# Altium footprint library Kanaloa_V2.0.0_Power.PcbLib: 36 footprints (part 2 of 3)
Each footprint in its own frame and in the unit in brackets; x right, y up, seen from the top. Pads: shape width x height; smd on the part's side, far side on the other; paste and mask are expansions set on the pad; w line width, h text height; cw(c..) or ccw(c..) is an arc to the next point about the centre after c.
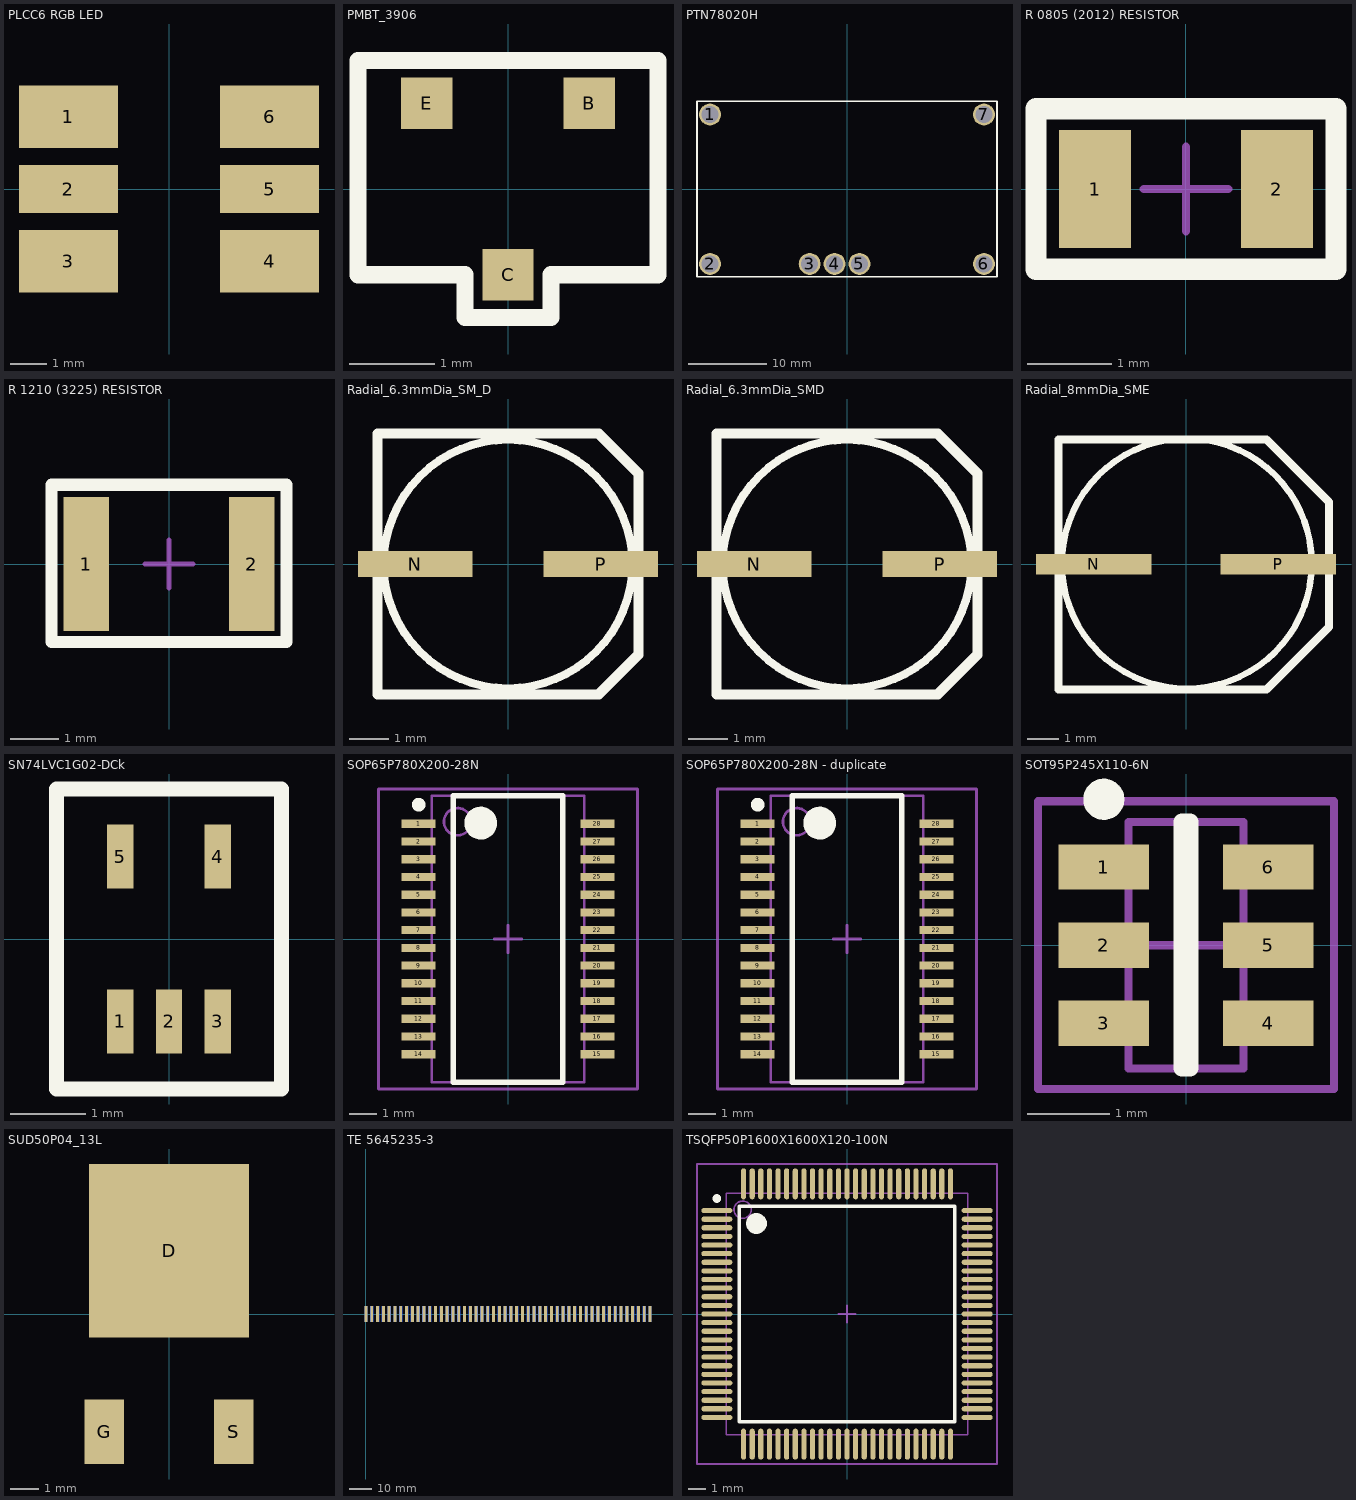
[diagram p1: the footprints below, top view; thin cyan lines are the x and y axes]

## MIC2171 [mm]

## PLCC6 RGB LED [mm] "Cree, CLV6A-FKB package"
pads (6):
  rect 2.7x1.7 smd: 1(-2.75,1.975) 3(-2.75,-1.975) 4(2.75,-1.975) 6(2.75,1.975)
  rect 2.7x1.3 smd: 2(-2.75,0) 5(2.75,0)
3D body: height 2.6, standoff 0, extent -2.75,-2.75 2.75,2.75

## PMBT_3906 [mm] "PNP Switching Transistor"
pads (3):
  rect 0.6x0.6 smd: B(0.95,1) C(0,-1) E(-0.95,1)
Top Overlay:
  lines w0.2: -1.75,-1 -0.5,-1 -0.5,-1.5 0.5,-1.5 0.5,-1 1.75,-1 1.75,1.5 -1.75,1.5 -1.75,-1
3D body: height 0.98, standoff -0.01, extent -1.448,-1.21 1.448,1.21

## PTN78020H [mil] "POWERWERWERWERWER"
pads (7):
  round 110 hole 85: 1(-687.5,375) 2(-687.5,-375) 3(-187.5,-375) 4(-62.5,-375) 5(62.5,-375) 6(687.5,-375) 7(687.5,375)
Top Overlay:
  lines w7.87: -753,-439 753,-439 753,441 -753,441 -753,-439
3D body: height 165.37, standoff -291.34, extent -748.04,-433.08 748.02,433.06

## R 0805 (2012) RESISTOR [mm] "0805 (2012) Resistor"
height 0.6
pads (2):
  rect 0.85x1.4 smd: 1(-1.075,0) 2(1.075,0)
Top Overlay:
  lines w0.254: -1.775,-0.95 -1.775,0.95 1.775,0.95 1.775,-0.95 -1.775,-0.95
Mechanical 15:
  lines w0.1: -0.5,0 0.5,0 ; 0,-0.5 0,0.5 ; -1.775,-0.95 -1.775,0.95 1.775,0.95 1.775,-0.95 -1.775,-0.95
3D body: height 0.85, standoff 0, extent 0.813,-0.65 1.188,0.65
3D body: height 0.85, standoff 0, extent -1.1,-0.635 1.1,0.635
3D body: height 0.85, standoff 0, extent -1.188,-0.65 -0.813,0.65

## R 1210 (3225) RESISTOR [mm] "1210 (3225) Resistor"
height 1.8
pads (2):
  rect 0.95x2.8 smd: 1(-1.725,0) 2(1.725,0)
Top Overlay:
  lines w0.254: -2.45,-1.625 -2.45,1.65 2.45,1.65 2.45,-1.625 -2.45,-1.625
Mechanical 15:
  lines w0.1: -0.5,0 0.5,0 ; 0,-0.5 0,0.5 ; -2.45,-1.65 2.45,-1.65 2.45,1.65 -2.45,1.65 -2.45,-1.65
3D body: height 1.81, standoff 0, extent 1.075,-1.425 1.825,1.425
3D body: height 1.81, standoff 0, extent -1.825,-1.425 -1.075,1.425
3D body: height 1.8, standoff 0, extent -1.8,-1.4 1.8,1.4

## Radial_6.3mmDia_SM_D [mm] "Surface Mount Aluminum Electrolytic Capacitor"
height 5.8
pads (2):
  rect 2.9x0.65 smd: N(-2.35,0) P(2.35,0)
Top Overlay:
  circle w0.203: c0,0 r3.15
  lines w0.254: -3.3,-3.3 -3.3,3.3 2.3,3.3 3.3,2.3 3.3,-2.3 2.3,-3.3 -3.3,-3.3
3D body: height 5.8, standoff 0, extent -3.159,-3.159 3.159,3.159

## Radial_6.3mmDia_SMD [mm] "Surface Mount Aluminum Electrolytic Capacitor"
height 5.8
pads (2):
  rect 2.9x0.65 smd: N(-2.35,0) P(2.35,0)
Top Overlay:
  circle w0.203: c0,0 r3.15
  lines w0.254: -3.3,-3.3 -3.3,3.3 2.3,3.3 3.3,2.3 3.3,-2.3 2.3,-3.3 -3.3,-3.3
3D body: height 7.7, standoff 0, extent -3.449,-3.3 3.551,3.3

## Radial_8mmDia_SME [mm] "Surface Mount Aluminum Electrolytic Capacitor"
height 6.2
pads (2):
  rect 3.7x0.65 smd: N(-2.95,0) P(2.95,0)
Top Overlay:
  circle w0.203: c0.025,0.025 r4
  lines w0.254: -4.075,-4 2.575,-4 4.575,-2 4.575,2 2.575,4 -4.075,4 -4.075,-4
3D body: height 10.2, standoff 0, extent -4.924,-4.15 4.976,4.15

## SN74LVC1G02-DCk [mm]
pads (5):
  rect 0.35x0.85 smd: 1(-0.65,-1.1) 2(0,-1.1) 3(0.65,-1.1) 4(0.65,1.1) 5(-0.65,1.1)
Top Overlay:
  lines w0.2: -1.5,-2 -1.5,2 1.5,2 1.5,-2 -1.5,-2
3D body: height 1, standoff 0, extent -1.45,-1.336 1.45,1.488

## SOP65P780X200-28N [mm] "SOP, 28-Leads, Body 10.5x5.6mm (max), Pitch 0.65mm, IPC Medium Density"
height 2
pads (28):
  rect 1.25x0.3 smd: 1(-3.275,4.225) 2(-3.275,3.575) 3(-3.275,2.925) 4(-3.275,2.275) 5(-3.275,1.625) 6(-3.275,0.975) 7(-3.275,0.325) 8(-3.275,-0.325) 9(-3.275,-0.975) 10(-3.275,-1.625) 11(-3.275,-2.275) 12(-3.275,-2.925) 13(-3.275,-3.575) 14(-3.275,-4.225) 15(3.275,-4.225) 16(3.275,-3.575) 17(3.275,-2.925) 18(3.275,-2.275) 19(3.275,-1.625) 20(3.275,-0.975) 21(3.275,-0.325) 22(3.275,0.325) 23(3.275,0.975) 24(3.275,1.625) 25(3.275,2.275) 26(3.275,2.925) 27(3.275,3.575) 28(3.275,4.225)
Top Overlay:
  circle w0.6: c-1,4.25 r0.3
  circle w0.25: c-3.275,4.925 r0.125
  lines w0.2: -2,-5.25 2,-5.25 2,5.25 -2,5.25 -2,-5.25
Mechanical 13:
  circle w0.1: c-1.85,4.3 r0.5
  lines w0.1: -2.8,-5.25 2.8,-5.25 2.8,5.25 -2.8,5.25 -2.8,-5.25
Mechanical 15:
  lines w0.1: -0.5,0 0.5,0 ; 0,-0.5 0,0.5 ; -4.75,-5.5 4.75,-5.5 4.75,5.5 -4.75,5.5 -4.75,-5.5
3D body: height 2, standoff 0.25, extent -2.8,-5.25 2.8,5.25

## SOP65P780X200-28N - duplicate [mm] "SOP, 28-Leads, Body 10.5x5.6mm (max), Pitch 0.65mm, IPC Medium Density"
height 2
pads (28):
  rect 1.25x0.3 smd: 1(-3.275,4.225) 2(-3.275,3.575) 3(-3.275,2.925) 4(-3.275,2.275) 5(-3.275,1.625) 6(-3.275,0.975) 7(-3.275,0.325) 8(-3.275,-0.325) 9(-3.275,-0.975) 10(-3.275,-1.625) 11(-3.275,-2.275) 12(-3.275,-2.925) 13(-3.275,-3.575) 14(-3.275,-4.225) 15(3.275,-4.225) 16(3.275,-3.575) 17(3.275,-2.925) 18(3.275,-2.275) 19(3.275,-1.625) 20(3.275,-0.975) 21(3.275,-0.325) 22(3.275,0.325) 23(3.275,0.975) 24(3.275,1.625) 25(3.275,2.275) 26(3.275,2.925) 27(3.275,3.575) 28(3.275,4.225)
Top Overlay:
  circle w0.25: c-3.275,4.925 r0.125
  circle w0.6: c-1,4.25 r0.3
  lines w0.2: -2,-5.25 -2,5.25 2,5.25 2,-5.25 -2,-5.25
Mechanical 13:
  circle w0.1: c-1.85,4.3 r0.5
  lines w0.1: -2.8,-5.25 -2.8,5.25 2.8,5.25 2.8,-5.25 -2.8,-5.25
Mechanical 15:
  lines w0.1: -0.5,0 0.5,0 ; 0,-0.5 0,0.5 ; -4.75,-5.5 -4.75,5.5 4.75,5.5 4.75,-5.5 -4.75,-5.5
3D body: height 2, standoff 0.25, extent -2.8,-5.25 2.8,5.25

## SOT95P245X110-6N [mm] "SOT23, 6-Leads, Body 3.0x2.6mm (max), Pitch 0.95mm, IPC Medium Density"
height 1.1
pads (6):
  rect 1.1x0.55 smd: 1(-1,0.95) 2(-1,0) 3(-1,-0.95) 4(1,-0.95) 5(1,0) 6(1,0.95)
Top Overlay:
  circle w0.25: c-1,1.775 r0.125
  lines w0.2: -0.05,-1.5 0.05,-1.5 0.05,1.5 -0.05,1.5 -0.05,-1.5
Mechanical 13:
  lines w0.1: -0.7,-1.5 -0.7,1.5 0.7,1.5 0.7,-1.5 -0.7,-1.5
Mechanical 15:
  lines w0.1: -0.5,0 0.5,0 ; 0,-0.5 0,0.5 ; -1.8,-1.75 -1.8,1.75 1.8,1.75 1.8,-1.75 -1.8,-1.75
3D body: height 1, standoff 0, extent -1.413,-1.45 1.412,1.45

## SUD50P04_13L [mil] "P CHANNEL POWER MOSFET"
pads (3):
  rect 224x243 smd: D(0,88.5)
  rect 55x90 smd: G(-90.55,-165) S(90.55,-165)
3D body: height 90.55, standoff 0, extent -129.53,-188.48 129.52,193.41

## TE 5645235-3 [mm] "EdgeCard Connector Pad Layout"
pads (100):
  rect 1.27x6.985 smd: 1(0,0) 2(2.54,0) 3(5.08,0) 4(7.62,0) 5(10.16,0) 6(12.7,0) 7(15.24,0) 8(17.78,0) 9(20.32,0) 10(22.86,0) 11(25.4,0) 12(27.94,0) 13(30.48,0) 14(33.02,0) 15(35.56,0) 16(38.1,0) 17(40.64,0) 18(43.18,0) 19(45.72,0) 20(48.26,0) 21(50.8,0) 22(53.34,0) 23(55.88,0) 24(58.42,0) 25(60.96,0) 26(63.5,0) 27(66.04,0) 28(68.58,0) 29(71.12,0) 30(73.66,0) 31(76.2,0) 32(78.74,0) 33(81.28,0) 34(83.82,0) 35(86.36,0) 36(88.9,0) 37(91.44,0) 38(93.98,0) 39(96.52,0) 40(99.06,0) 41(101.6,0) 42(104.14,0) 43(106.68,0) 44(109.22,0) 45(111.76,0) 46(114.3,0) 47(116.84,0) 48(119.38,0) 49(121.92,0) 50(124.46,0)
  rect 1.27x6.985 smd far side: 51(0,0) 52(2.54,0) 53(5.08,0) 54(7.62,0) 55(10.16,0) 56(12.7,0) 57(15.24,0) 58(17.78,0) 59(20.32,0) 60(22.86,0) 61(25.4,0) 62(27.94,0) 63(30.48,0) 64(33.02,0) 65(35.56,0) 66(38.1,0) 67(40.64,0) 68(43.18,0) 69(45.72,0) 70(48.26,0) 71(50.8,0) 72(53.34,0) 73(55.88,0) 74(58.42,0) 75(60.96,0) 76(63.5,0) 77(66.04,0) 78(68.58,0) 79(71.12,0) 80(73.66,0) 81(76.2,0) 82(78.74,0) 83(81.28,0) 84(83.82,0) 85(86.36,0) 86(88.9,0) 87(91.44,0) 88(93.98,0) 89(96.52,0) 90(99.06,0) 91(101.6,0) 92(104.14,0) 93(106.68,0) 94(109.22,0) 95(111.76,0) 96(114.3,0) 97(116.84,0) 98(119.38,0) 99(121.92,0) 100(124.46,0)

## TSQFP50P1600X1600X120-100N [mm] "TSQFP, 100-Leads, Body 16.3x16.3mm (max), Pitch 0.50mm, IPC Medium Density"
height 1.2
pads (100):
  oval 1.8x0.3 smd: 1(-7.55,6) 2(-7.55,5.5) 3(-7.55,5) 4(-7.55,4.5) 5(-7.55,4) 6(-7.55,3.5) 7(-7.55,3) 8(-7.55,2.5) 9(-7.55,2) 10(-7.55,1.5) 11(-7.55,1) 12(-7.55,0.5) 13(-7.55,0) 14(-7.55,-0.5) 15(-7.55,-1) 16(-7.55,-1.5) 17(-7.55,-2) 18(-7.55,-2.5) 19(-7.55,-3) 20(-7.55,-3.5) 21(-7.55,-4) 22(-7.55,-4.5) 23(-7.55,-5) 24(-7.55,-5.5) 25(-7.55,-6) 51(7.55,-6) 52(7.55,-5.5) 53(7.55,-5) 54(7.55,-4.5) 55(7.55,-4) 56(7.55,-3.5) 57(7.55,-3) 58(7.55,-2.5) 59(7.55,-2) 60(7.55,-1.5) 61(7.55,-1) 62(7.55,-0.5) 63(7.55,0) 64(7.55,0.5) 65(7.55,1) 66(7.55,1.5) 67(7.55,2) 68(7.55,2.5) 69(7.55,3) 70(7.55,3.5) 71(7.55,4) 72(7.55,4.5) 73(7.55,5) 74(7.55,5.5) 75(7.55,6)
  oval 0.3x1.8 smd: 26(-6,-7.55) 27(-5.5,-7.55) 28(-5,-7.55) 29(-4.5,-7.55) 30(-4,-7.55) 31(-3.5,-7.55) 32(-3,-7.55) 33(-2.5,-7.55) 34(-2,-7.55) 35(-1.5,-7.55) 36(-1,-7.55) 37(-0.5,-7.55) 38(0,-7.55) 39(0.5,-7.55) 40(1,-7.55) 41(1.5,-7.55) 42(2,-7.55) 43(2.5,-7.55) 44(3,-7.55) 45(3.5,-7.55) 46(4,-7.55) 47(4.5,-7.55) 48(5,-7.55) 49(5.5,-7.55) 50(6,-7.55) 76(6,7.55) 77(5.5,7.55) 78(5,7.55) 79(4.5,7.55) 80(4,7.55) 81(3.5,7.55) 82(3,7.55) 83(2.5,7.55) 84(2,7.55) 85(1.5,7.55) 86(1,7.55) 87(0.5,7.55) 88(0,7.55) 89(-0.5,7.55) 90(-1,7.55) 91(-1.5,7.55) 92(-2,7.55) 93(-2.5,7.55) 94(-3,7.55) 95(-3.5,7.55) 96(-4,7.55) 97(-4.5,7.55) 98(-5,7.55) 99(-5.5,7.55) 100(-6,7.55)
Top Overlay:
  circle w0.25: c-7.55,6.7 r0.125
  circle w0.6: c-5.25,5.25 r0.3
  lines w0.2: -6.25,-6.25 -6.25,6.25 6.25,6.25 6.25,-6.25 -6.25,-6.25
Mechanical 13:
  circle w0.1: c-6.05,6.05 r0.5
  lines w0.1: -7,-7 -7,7 7,7 7,-7 -7,-7
Mechanical 15:
  lines w0.1: -0.5,0 0.5,0 ; 0,-0.5 0,0.5 ; -8.7,-8.7 -8.7,8.7 8.7,8.7 8.7,-8.7 -8.7,-8.7
3D body: height 1.2, standoff 0.05, extent -7,-7 7,7